# EAGLE library part RK097-SINGLE-W/SWITCH-ROTARY (library halcyonmod_Potentiometers)
Schematic Single Element w/ Switch
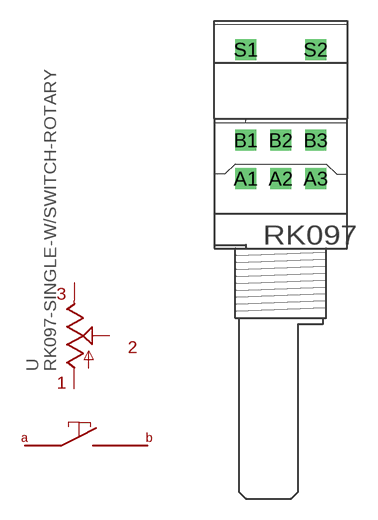
[diagram p2: symbol with the pads of RK097-DUAL-ELEMENT-W/SWITCH; footprint RK097-DUAL-ELEMENT-W/SWITCH]

Designator prefix -

## RK097-SINGLE-W/SWITCH-ROTARY  [RK097-DUAL-ELEMENT-W/SWITCH]
A1  S1  pas
A2  S  pas
A3  E1  pas
B1  A  pas
B2  A1  pas
B3  E  pas

## Footprint RK097-DUAL-ELEMENT-W/SWITCH (pad centres in mm)
RK097 Dual Element w/ Rotary Switch
drill 1 pad 1.422 square: A1 -2.5,-0.06; A2 0,-0.06; A3 2.5,-0.06; B1 -2.5,2.69; B2 0,2.69; B3 2.5,2.69; S1 -2.5,9.19; S2 2.5,9.19